# EAGLE library part BUF634F/500 (library texas-instruments-jqi)
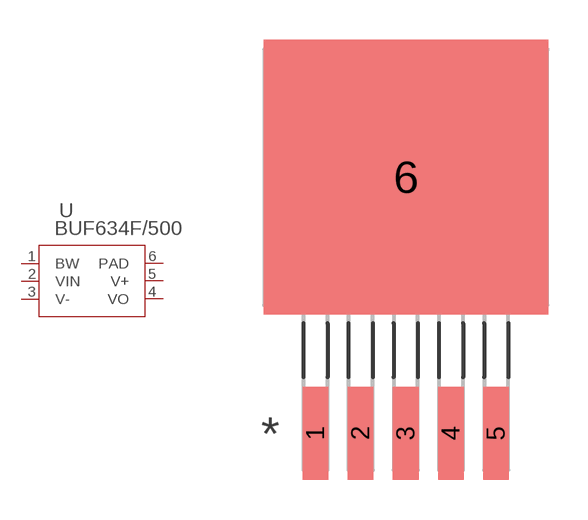
[diagram p2: symbol with the pads of KTT5; footprint KTT5]

Designator prefix U

## BUF634F/500 (COPYRIGHT: Copyright C 2015 Accelerated Designs. All rights reserved; FAMILY: Unknown; MANUFACTURER_NAME: Texas Instruments; MANUFACTURER_PART_NUMBER: BUF634FKTTT; RSPARTNUMBER: 6604213; SECTION: Unknown; VENDOR: Texas Instruments)  [KTT5]
1  BW  pas
2  VIN  in
3  V-  pwr
4  VO  out
5  V+  pwr
6  PAD  pas

## Footprint KTT5 (pad centres in mm)
smd 0.965 x 3.505: 1 -3.4,-9.652; 2 -1.7,-9.652; 3 0,-9.652; 4 1.7,-9.652; 5 3.4,-9.652
smd 10.719 x 10.363: 6 0,0